# Altium integrated library Analog Devices Data Converters Analog-to-Digital Converters.IntLib: 2400 symbols (part 187 of 338)
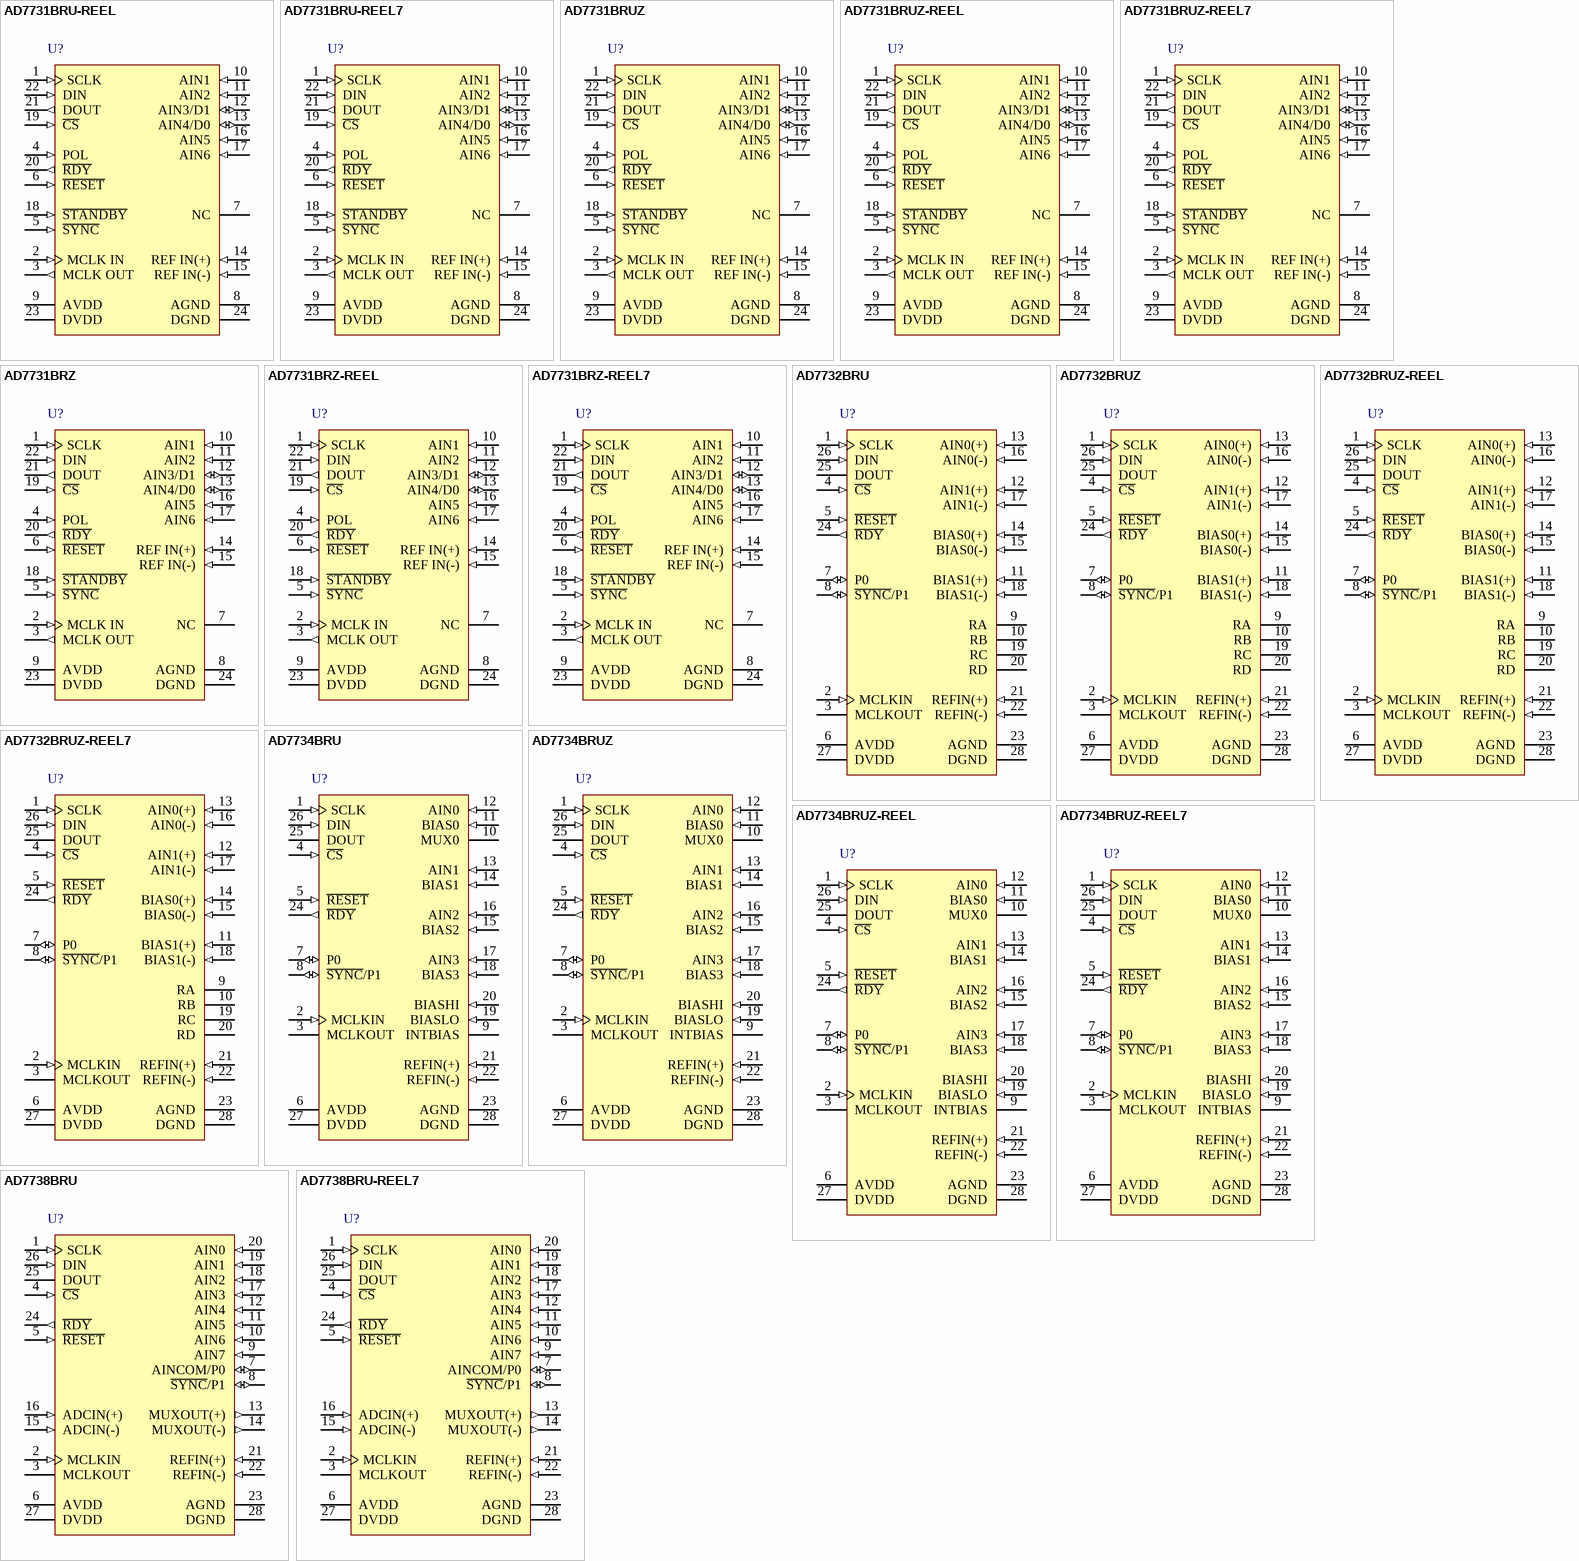
[diagram p259: symbols AD7731BRU-REEL to AD7738BRU-REEL7]

## AD7732BRUZ-REEL
designator U?
Dual 24-Bit Sigma-Delta Analog-to-Digital Converter with Serial, SPI Interface, +/-10 V, 15.4KSPS, -40 to +105 degC, RU-28, Pb-Free, Reel; Part Number: AD7732; Manufacturer: Analog Devices; Resolution (Bits): 24; Channels: 2; Throughput Rate (SPS): 15.4K; Interface: Ser, SPI; DatasheetVersion: Rev.A; PackageVersion: 2005; PackageReference: RU-28; PackageDescription: 28-Lead Thin Shrink Small Outline Package [TSSOP]; RoHS: Y; Packing: Reel; Mounting Technology: Surface Mount; Code_JEDEC: MO-153-AE; ComponentLink1Description: Manufacturer URL; ComponentLink1URL: http://www.analog.com/en/index.html; ComponentLink2Description: Datasheet; ComponentLink2URL: http://www.analog.com/static/imported-files/data_sheets/AD7732.pdf; ComponentLink3Description: Package Specification; ComponentLink3URL: http://www.analog.com/static/imported-files/packages/249854663RU_28.pdf; ComponentLink4Description: Product URL; ComponentLink4URL: http://www.analog.com/en/analog-to-digital-converters/ad-converters/ad7732/products/product.html
footprint RU-28_N (TSOP, 28-Leads, Body 9.7x4.4mm, Pitch 0.65mm, IPC Medium Density)
footprint RU-28_L (TSOP, 28-Leads, Body 9.7x4.4mm, Pitch 0.65mm, IPC High Density)
footprint RU-28_M (TSOP, 28-Leads, Body 9.7x4.4mm, Pitch 0.65mm, IPC Low Density)
pins: 1 SCLK (in) "Serial Clock. Schmitt triggered logic input. An external serial clock is applied to this input to transfer serial data to or from the AD7732.", 2 MCLKIN (in) "Master Clock Signal for the ADC. This can be provided in the form of a crystal/resonator or external clock. A crystal/resonator can be tied across the MCLKIN and MCLKOUT pins. Alternatively, the MCLKIN pin can be driven with (See Datasheet)", 3 MCLKOUT (hiz) "When the master clock for the device is a crystal/resonator, the crystal/resonator is connected between MCLKIN and MCLKOUT. If an external clock is applied to the MCLKIN, MCLKOUT provides an inverted clock signal or can be (See Datasheet)", 4 ~{CS} (in) "Chip Select. Active low Schmitt triggered logic input with an internal pull-up resistor. With this input hardwired low, the AD7732 can operate in its 3-wire interface mode using SCLK, DIN, and DOUT. C\S\ can be used to (See Datasheet)", 5 ~{RESET} (in) "Schmitt Triggered Logic Input. Active low input that resets the control logic, interface logic, digital filter, analog modulator, and all on-chip registers of the part to power-on status. Effectively, everything on the part (See Datasheet)", 6 AVDD (power) "Analog Positive Supply Voltage. 5 V to AGND nominal.", 7 P0 (io) "Digital Input/Output. The pin direction is determined by the P0 DIR bit; the digital value can be read/written as the P0 bit in the I/O port register. The digital voltage is referenced to analog supplies. When configured as (See Datasheet)", 8 ~{SYNC}/P1 (io) "S\Y\N\C\/Digital Input/Digital Output. The pin direction is determined by the P1 DIR bit; the digital value can be read/written as the P1 bit in the I/O port register. When the SYNC bit in the I/O port register is set to 1, (See Datasheet)", 9 RA "RA, in association with RB and BIAS0(+), can be used to level shift the positive analog input 0. In normal circuit configuration, this pin is left open circuit.", 10 RB "RB, in association with RA and BIAS0(+), can be used to level shift the positive analog input 0. In normal circuit configuration, this pin is left open circuit.", 11 BIAS1(+) (in) "This input is used to level shift the positive analog input 1. This signal is used to ensure that the differential signal seen by the internal buffer amplifier is within its common-mode range. BIAS pins will normally be (See Datasheet)", 12 AIN1(+) (in) "Positive Analog Input Channel 1.", 13 AIN0(+) (in) "Positive Analog Input Channel 0.", 14 BIAS0(+) (in) "Voltage Bias for Positive Analog Input 0. This pin has the same function as BIAS1(+).", 15 BIAS0(-) (in) "Voltage Bias for Negative Analog Input 0. This pin has the same function as BIAS1(+).", 16 AIN0(-) (in) "Negative Analog Input Channel 0.", 17 AIN1(-) (in) "Negative Analog Input Channel 1.", 18 BIAS1(-) (in) "Voltage Bias for Negative Analog Input 1. This pin has the same function as BIAS1(+).", 19 RC "RC, in association with RD and BIAS0(-), can be used to level shift the negative analog input 0. In normal circuit configuration, this pin is left open circuit.", 20 RD "RD, in association with RC and BIAS0(-), can be used to level shift the negative analog input 0. In normal circuit configuration, this pin is left open circuit.", 21 REFIN(+) (in) "Positive Terminal of the Differential Reference Input. REFIN(+) voltage potential can lie anywhere between AVDD and AGND. In normal circuit configuration, this pin should be connected to a 2.5 V reference voltage.", 22 REFIN(-) (in) "Negative Terminal of the Differential Reference Input. REFIN(-) voltage potential can lie anywhere between AVDD and AGND. In normal circuit configuration, this pin should be connected to a 0 V reference voltage.", 23 AGND (power) "Ground Reference Point for Analog Circuitry.", 24 ~{RDY} (out) "Logic Output. Used as a status output in both conversion mode and calibration mode. In conversion mode, a falling edge on this output indicates that either any channel or all channels have unread data available, according to (See Datasheet)", 25 DOUT (hiz) "Serial data output with serial data being read from the output shift register on the part. This output shift register can contain information from any AD7732 register, depending on the address bits of the communications (See Datasheet)", 26 DIN (in) "Serial data input (Schmitt triggered) with serial data being written to the input shift register on the part. Data from this input shift register is transferred to any AD7732 register, depending on the address bits of the (See Datasheet)", 27 DVDD (power) "Digital Supply Voltage, 3 V or 5 V Nominal.", 28 DGND (power) "Ground Reference Point for Digital Circuitry."

## AD7732BRUZ-REEL7
designator U?
Dual 24-Bit Sigma-Delta Analog-to-Digital Converter with Serial, SPI Interface, +/-10 V, 15.4KSPS, -40 to +105 degC, RU-28, Pb-Free, Reel; Part Number: AD7732; Manufacturer: Analog Devices; Resolution (Bits): 24; Channels: 2; Throughput Rate (SPS): 15.4K; Interface: Ser, SPI; DatasheetVersion: Rev.A; PackageVersion: 2005; PackageReference: RU-28; PackageDescription: 28-Lead Thin Shrink Small Outline Package [TSSOP]; RoHS: Y; Packing: Reel; Mounting Technology: Surface Mount; Code_JEDEC: MO-153-AE; ComponentLink1Description: Manufacturer URL; ComponentLink1URL: http://www.analog.com/en/index.html; ComponentLink2Description: Datasheet; ComponentLink2URL: http://www.analog.com/static/imported-files/data_sheets/AD7732.pdf; ComponentLink3Description: Package Specification; ComponentLink3URL: http://www.analog.com/static/imported-files/packages/249854663RU_28.pdf; ComponentLink4Description: Product URL; ComponentLink4URL: http://www.analog.com/en/analog-to-digital-converters/ad-converters/ad7732/products/product.html
footprint RU-28_N (TSOP, 28-Leads, Body 9.7x4.4mm, Pitch 0.65mm, IPC Medium Density)
footprint RU-28_L (TSOP, 28-Leads, Body 9.7x4.4mm, Pitch 0.65mm, IPC High Density)
footprint RU-28_M (TSOP, 28-Leads, Body 9.7x4.4mm, Pitch 0.65mm, IPC Low Density)
pins: 1 SCLK (in) "Serial Clock. Schmitt triggered logic input. An external serial clock is applied to this input to transfer serial data to or from the AD7732.", 2 MCLKIN (in) "Master Clock Signal for the ADC. This can be provided in the form of a crystal/resonator or external clock. A crystal/resonator can be tied across the MCLKIN and MCLKOUT pins. Alternatively, the MCLKIN pin can be driven with (See Datasheet)", 3 MCLKOUT (hiz) "When the master clock for the device is a crystal/resonator, the crystal/resonator is connected between MCLKIN and MCLKOUT. If an external clock is applied to the MCLKIN, MCLKOUT provides an inverted clock signal or can be (See Datasheet)", 4 ~{CS} (in) "Chip Select. Active low Schmitt triggered logic input with an internal pull-up resistor. With this input hardwired low, the AD7732 can operate in its 3-wire interface mode using SCLK, DIN, and DOUT. C\S\ can be used to (See Datasheet)", 5 ~{RESET} (in) "Schmitt Triggered Logic Input. Active low input that resets the control logic, interface logic, digital filter, analog modulator, and all on-chip registers of the part to power-on status. Effectively, everything on the part (See Datasheet)", 6 AVDD (power) "Analog Positive Supply Voltage. 5 V to AGND nominal.", 7 P0 (io) "Digital Input/Output. The pin direction is determined by the P0 DIR bit; the digital value can be read/written as the P0 bit in the I/O port register. The digital voltage is referenced to analog supplies. When configured as (See Datasheet)", 8 ~{SYNC}/P1 (io) "S\Y\N\C\/Digital Input/Digital Output. The pin direction is determined by the P1 DIR bit; the digital value can be read/written as the P1 bit in the I/O port register. When the SYNC bit in the I/O port register is set to 1, (See Datasheet)", 9 RA "RA, in association with RB and BIAS0(+), can be used to level shift the positive analog input 0. In normal circuit configuration, this pin is left open circuit.", 10 RB "RB, in association with RA and BIAS0(+), can be used to level shift the positive analog input 0. In normal circuit configuration, this pin is left open circuit.", 11 BIAS1(+) (in) "This input is used to level shift the positive analog input 1. This signal is used to ensure that the differential signal seen by the internal buffer amplifier is within its common-mode range. BIAS pins will normally be (See Datasheet)", 12 AIN1(+) (in) "Positive Analog Input Channel 1.", 13 AIN0(+) (in) "Positive Analog Input Channel 0.", 14 BIAS0(+) (in) "Voltage Bias for Positive Analog Input 0. This pin has the same function as BIAS1(+).", 15 BIAS0(-) (in) "Voltage Bias for Negative Analog Input 0. This pin has the same function as BIAS1(+).", 16 AIN0(-) (in) "Negative Analog Input Channel 0.", 17 AIN1(-) (in) "Negative Analog Input Channel 1.", 18 BIAS1(-) (in) "Voltage Bias for Negative Analog Input 1. This pin has the same function as BIAS1(+).", 19 RC "RC, in association with RD and BIAS0(-), can be used to level shift the negative analog input 0. In normal circuit configuration, this pin is left open circuit.", 20 RD "RD, in association with RC and BIAS0(-), can be used to level shift the negative analog input 0. In normal circuit configuration, this pin is left open circuit.", 21 REFIN(+) (in) "Positive Terminal of the Differential Reference Input. REFIN(+) voltage potential can lie anywhere between AVDD and AGND. In normal circuit configuration, this pin should be connected to a 2.5 V reference voltage.", 22 REFIN(-) (in) "Negative Terminal of the Differential Reference Input. REFIN(-) voltage potential can lie anywhere between AVDD and AGND. In normal circuit configuration, this pin should be connected to a 0 V reference voltage.", 23 AGND (power) "Ground Reference Point for Analog Circuitry.", 24 ~{RDY} (out) "Logic Output. Used as a status output in both conversion mode and calibration mode. In conversion mode, a falling edge on this output indicates that either any channel or all channels have unread data available, according to (See Datasheet)", 25 DOUT (hiz) "Serial data output with serial data being read from the output shift register on the part. This output shift register can contain information from any AD7732 register, depending on the address bits of the communications (See Datasheet)", 26 DIN (in) "Serial data input (Schmitt triggered) with serial data being written to the input shift register on the part. Data from this input shift register is transferred to any AD7732 register, depending on the address bits of the (See Datasheet)", 27 DVDD (power) "Digital Supply Voltage, 3 V or 5 V Nominal.", 28 DGND (power) "Ground Reference Point for Digital Circuitry."

## AD7734BRU
designator U?
Quad 24-Bit Sigma-Delta Analog-to-Digital Converter with Serial, SPI Interface, +/-10 V, 15.4KSPS, -40 to +105 degC, RU-28, Tube; Part Number: AD7734; Manufacturer: Analog Devices; Resolution (Bits): 24; Channels: 4; Throughput Rate (SPS): 15.4K; Interface: Ser, SPI; DatasheetVersion: Rev.0; PackageVersion: 2005; PackageReference: RU-28; PackageDescription: 28-Lead Thin Shrink Small Outline Package [TSSOP]; RoHS: N; Packing: Tube; Mounting Technology: Surface Mount; Code_JEDEC: MO-153-AE; ComponentLink1Description: Manufacturer URL; ComponentLink1URL: http://www.analog.com/en/index.html; ComponentLink2Description: Datasheet; ComponentLink2URL: http://www.analog.com/static/imported-files/data_sheets/AD7734.pdf; ComponentLink3Description: Package Specification; ComponentLink3URL: http://www.analog.com/static/imported-files/packages/249854663RU_28.pdf; ComponentLink4Description: Product URL; ComponentLink4URL: http://www.analog.com/en/analog-to-digital-converters/ad-converters/ad7734/products/product.html
footprint RU-28_N (TSOP, 28-Leads, Body 9.7x4.4mm, Pitch 0.65mm, IPC Medium Density)
footprint RU-28_L (TSOP, 28-Leads, Body 9.7x4.4mm, Pitch 0.65mm, IPC High Density)
footprint RU-28_M (TSOP, 28-Leads, Body 9.7x4.4mm, Pitch 0.65mm, IPC Low Density)
pins: 1 SCLK (in) "Serial Clock. Schmitt triggered logic input. An external serial clock is applied to this input to transfer serial data to or from the AD7734.", 2 MCLKIN (in) "Master Clock Signal for the ADC. This can be provided in the form of a crystal/resonator or external clock. A crystal/resonator can be tied across the MCLKIN and MCLKOUT pins. Alternatively, the MCLKIN pin can be driven with (See Datasheet)", 3 MCLKOUT (hiz) "When the master clock for the device is a crystal/resonator, the crystal/resonator is connected between MCLKIN and MCLKOUT. If an external clock is applied to the MCLKIN, MCLKOUT provides an inverted clock signal or can be (See Datasheet)", 4 ~{CS} (in) "Chip Select. Active low Schmitt triggered logic input with an internal pull-up resistor. With this input hardwired low, the AD7734 can operate in its 3-wire interface mode using SCLK, DIN, and DOUT. C\S\ can be used to (See Datasheet)", 5 ~{RESET} (in) "Schmitt Triggered Logic Input. Active low input that resets the control logic, interface logic, digital filter, analog modulator, and all on-chip registers of the part to power-on status. Effectively, everything on the part (See Datasheet)", 6 AVDD (power) "Analog Positive Supply Voltage. 5 V to AGND nominal.", 7 P0 (io) "Digital Input/Output. The pin direction is determined by the P0 DIR bit; the digital value can be read/written as the P0 bit in the I/O port register. The digital voltage is referenced to analog supplies. When configured as (See Datasheet)", 8 ~{SYNC}/P1 (io) "S\Y\N\C\/Digital Input/Digital Output. The pin direction is determined by the P1 DIR bit; the digital value can be read/written as the P1 bit in the I/O port register. When the SYNC bit in the I/O port register is set to 1, (See Datasheet)", 9 INTBIAS "This pin provides direct access to the analog input’s common node, bypassing the input resistor divider. In normal circuit configuration, this pin is left open circuit.", 10 MUX0 "This pin provides direct access to the multiplexer input of Channel 0, bypassing the input resistor divider. The input voltage range is 0 V to +0.625 V, +/-0.625 V, 0 V to +1.25 V, or +/-1.25 V referenced to the INTBIAS pin. (See Datasheet)", 11 BIAS0 (in) "These inputs are used to level shift the analog inputs. These signals are used to ensure that the differential signal seen by the internal buffer amplifier is within its common-mode range. The BIAS0 to BIAS3 pins will (See Datasheet)", 12 AIN0 (in) "Analog Inputs.", 13 AIN1 (in) "Analog Inputs.", 14 BIAS1 (in) "These inputs are used to level shift the analog inputs. These signals are used to ensure that the differential signal seen by the internal buffer amplifier is within its common-mode range. The BIAS0 to BIAS3 pins will (See Datasheet)", 15 BIAS2 (in) "These inputs are used to level shift the analog inputs. These signals are used to ensure that the differential signal seen by the internal buffer amplifier is within its common-mode range. The BIAS0 to BIAS3 pins will (See Datasheet)", 16 AIN2 (in) "Analog Inputs.", 17 AIN3 (in) "Analog Inputs.", 18 BIAS3 (in) "These inputs are used to level shift the analog inputs. These signals are used to ensure that the differential signal seen by the internal buffer amplifier is within its common-mode range. The BIAS0 to BIAS3 pins will (See Datasheet)", 19 BIASLO (in) "BIASLO, in association with BIASHI, is used to set the analog input common-mode voltage. Assuming the BIAS0 to BIAS3 and BIASHI pins are connected to 2.5 V, the analog input voltages are referenced to the voltage at BIASLO. (See Datasheet)", 20 BIASHI (in) "BIASHI, in association with BIASLO, is used to set the analog input common-mode voltage. In normal circuit configuration, this pin should be connected to 2.5 V.", 21 REFIN(+) (in) "Positive Terminal of the Differential Reference Input. REFIN(+) voltage potential can lie anywhere between AVDD and AGND. In normal circuit configuration, this pin should be connected to a 2.5 V reference voltage.", 22 REFIN(-) (in) "Negative Terminal of the Differential Reference Input. REFIN(-) voltage potential can lie anywhere between AVDD and AGND. In normal circuit configuration, this pin should be connected to a 0 V reference voltage.", 23 AGND (power) "Ground Reference Point for Analog Circuitry.", 24 ~{RDY} (out) "Logic Output. Used as a status output in both conversion mode and calibration mode. In conversion mode, a falling edge on this output indicates that either any channel or all channels have unread data available, according to (See Datasheet)", 25 DOUT (hiz) "Serial data output with serial data being read from the output shift register on the part. This output shift register can contain information from any AD7734 register, depending on the address bits of the communications (See Datasheet)", 26 DIN (in) "Serial data input (Schmitt triggered) with serial data being written to the input shift register on the part. Data from this input shift register is transferred to any AD7734 register, depending on the address bits of the (See Datasheet)", 27 DVDD (power) "Digital Supply Voltage, 3 V or 5 V Nominal.", 28 DGND (power) "Ground Reference Point for Digital Circuitry."

## AD7734BRUZ
designator U?
Quad 24-Bit Sigma-Delta Analog-to-Digital Converter with Serial, SPI Interface, +/-10 V, 15.4KSPS, -40 to +105 degC, RU-28, Pb-Free, Tube; Part Number: AD7734; Manufacturer: Analog Devices; Resolution (Bits): 24; Channels: 4; Throughput Rate (SPS): 15.4K; Interface: Ser, SPI; DatasheetVersion: Rev.0; PackageVersion: 2005; PackageReference: RU-28; PackageDescription: 28-Lead Thin Shrink Small Outline Package [TSSOP]; RoHS: Y; Packing: Tube; Mounting Technology: Surface Mount; Code_JEDEC: MO-153-AE; ComponentLink1Description: Manufacturer URL; ComponentLink1URL: http://www.analog.com/en/index.html; ComponentLink2Description: Datasheet; ComponentLink2URL: http://www.analog.com/static/imported-files/data_sheets/AD7734.pdf; ComponentLink3Description: Package Specification; ComponentLink3URL: http://www.analog.com/static/imported-files/packages/249854663RU_28.pdf; ComponentLink4Description: Product URL; ComponentLink4URL: http://www.analog.com/en/analog-to-digital-converters/ad-converters/ad7734/products/product.html
footprint RU-28_N (TSOP, 28-Leads, Body 9.7x4.4mm, Pitch 0.65mm, IPC Medium Density)
footprint RU-28_L (TSOP, 28-Leads, Body 9.7x4.4mm, Pitch 0.65mm, IPC High Density)
footprint RU-28_M (TSOP, 28-Leads, Body 9.7x4.4mm, Pitch 0.65mm, IPC Low Density)
pins: 1 SCLK (in) "Serial Clock. Schmitt triggered logic input. An external serial clock is applied to this input to transfer serial data to or from the AD7734.", 2 MCLKIN (in) "Master Clock Signal for the ADC. This can be provided in the form of a crystal/resonator or external clock. A crystal/resonator can be tied across the MCLKIN and MCLKOUT pins. Alternatively, the MCLKIN pin can be driven with (See Datasheet)", 3 MCLKOUT (hiz) "When the master clock for the device is a crystal/resonator, the crystal/resonator is connected between MCLKIN and MCLKOUT. If an external clock is applied to the MCLKIN, MCLKOUT provides an inverted clock signal or can be (See Datasheet)", 4 ~{CS} (in) "Chip Select. Active low Schmitt triggered logic input with an internal pull-up resistor. With this input hardwired low, the AD7734 can operate in its 3-wire interface mode using SCLK, DIN, and DOUT. C\S\ can be used to (See Datasheet)", 5 ~{RESET} (in) "Schmitt Triggered Logic Input. Active low input that resets the control logic, interface logic, digital filter, analog modulator, and all on-chip registers of the part to power-on status. Effectively, everything on the part (See Datasheet)", 6 AVDD (power) "Analog Positive Supply Voltage. 5 V to AGND nominal.", 7 P0 (io) "Digital Input/Output. The pin direction is determined by the P0 DIR bit; the digital value can be read/written as the P0 bit in the I/O port register. The digital voltage is referenced to analog supplies. When configured as (See Datasheet)", 8 ~{SYNC}/P1 (io) "S\Y\N\C\/Digital Input/Digital Output. The pin direction is determined by the P1 DIR bit; the digital value can be read/written as the P1 bit in the I/O port register. When the SYNC bit in the I/O port register is set to 1, (See Datasheet)", 9 INTBIAS "This pin provides direct access to the analog input’s common node, bypassing the input resistor divider. In normal circuit configuration, this pin is left open circuit.", 10 MUX0 "This pin provides direct access to the multiplexer input of Channel 0, bypassing the input resistor divider. The input voltage range is 0 V to +0.625 V, +/-0.625 V, 0 V to +1.25 V, or +/-1.25 V referenced to the INTBIAS pin. (See Datasheet)", 11 BIAS0 (in) "These inputs are used to level shift the analog inputs. These signals are used to ensure that the differential signal seen by the internal buffer amplifier is within its common-mode range. The BIAS0 to BIAS3 pins will (See Datasheet)", 12 AIN0 (in) "Analog Inputs.", 13 AIN1 (in) "Analog Inputs.", 14 BIAS1 (in) "These inputs are used to level shift the analog inputs. These signals are used to ensure that the differential signal seen by the internal buffer amplifier is within its common-mode range. The BIAS0 to BIAS3 pins will (See Datasheet)", 15 BIAS2 (in) "These inputs are used to level shift the analog inputs. These signals are used to ensure that the differential signal seen by the internal buffer amplifier is within its common-mode range. The BIAS0 to BIAS3 pins will (See Datasheet)", 16 AIN2 (in) "Analog Inputs.", 17 AIN3 (in) "Analog Inputs.", 18 BIAS3 (in) "These inputs are used to level shift the analog inputs. These signals are used to ensure that the differential signal seen by the internal buffer amplifier is within its common-mode range. The BIAS0 to BIAS3 pins will (See Datasheet)", 19 BIASLO (in) "BIASLO, in association with BIASHI, is used to set the analog input common-mode voltage. Assuming the BIAS0 to BIAS3 and BIASHI pins are connected to 2.5 V, the analog input voltages are referenced to the voltage at BIASLO. (See Datasheet)", 20 BIASHI (in) "BIASHI, in association with BIASLO, is used to set the analog input common-mode voltage. In normal circuit configuration, this pin should be connected to 2.5 V.", 21 REFIN(+) (in) "Positive Terminal of the Differential Reference Input. REFIN(+) voltage potential can lie anywhere between AVDD and AGND. In normal circuit configuration, this pin should be connected to a 2.5 V reference voltage.", 22 REFIN(-) (in) "Negative Terminal of the Differential Reference Input. REFIN(-) voltage potential can lie anywhere between AVDD and AGND. In normal circuit configuration, this pin should be connected to a 0 V reference voltage.", 23 AGND (power) "Ground Reference Point for Analog Circuitry.", 24 ~{RDY} (out) "Logic Output. Used as a status output in both conversion mode and calibration mode. In conversion mode, a falling edge on this output indicates that either any channel or all channels have unread data available, according to (See Datasheet)", 25 DOUT (hiz) "Serial data output with serial data being read from the output shift register on the part. This output shift register can contain information from any AD7734 register, depending on the address bits of the communications (See Datasheet)", 26 DIN (in) "Serial data input (Schmitt triggered) with serial data being written to the input shift register on the part. Data from this input shift register is transferred to any AD7734 register, depending on the address bits of the (See Datasheet)", 27 DVDD (power) "Digital Supply Voltage, 3 V or 5 V Nominal.", 28 DGND (power) "Ground Reference Point for Digital Circuitry."

## AD7734BRUZ-REEL
designator U?
Quad 24-Bit Sigma-Delta Analog-to-Digital Converter with Serial, SPI Interface, +/-10 V, 15.4KSPS, -40 to +105 degC, RU-28, Pb-Free, Reel; Part Number: AD7734; Manufacturer: Analog Devices; Resolution (Bits): 24; Channels: 4; Throughput Rate (SPS): 15.4K; Interface: Ser, SPI; DatasheetVersion: Rev.0; PackageVersion: 2005; PackageReference: RU-28; PackageDescription: 28-Lead Thin Shrink Small Outline Package [TSSOP]; RoHS: Y; Packing: Reel; Mounting Technology: Surface Mount; Code_JEDEC: MO-153-AE; ComponentLink1Description: Manufacturer URL; ComponentLink1URL: http://www.analog.com/en/index.html; ComponentLink2Description: Datasheet; ComponentLink2URL: http://www.analog.com/static/imported-files/data_sheets/AD7734.pdf; ComponentLink3Description: Package Specification; ComponentLink3URL: http://www.analog.com/static/imported-files/packages/249854663RU_28.pdf; ComponentLink4Description: Product URL; ComponentLink4URL: http://www.analog.com/en/analog-to-digital-converters/ad-converters/ad7734/products/product.html
footprint RU-28_N (TSOP, 28-Leads, Body 9.7x4.4mm, Pitch 0.65mm, IPC Medium Density)
footprint RU-28_L (TSOP, 28-Leads, Body 9.7x4.4mm, Pitch 0.65mm, IPC High Density)
footprint RU-28_M (TSOP, 28-Leads, Body 9.7x4.4mm, Pitch 0.65mm, IPC Low Density)
pins: 1 SCLK (in) "Serial Clock. Schmitt triggered logic input. An external serial clock is applied to this input to transfer serial data to or from the AD7734.", 2 MCLKIN (in) "Master Clock Signal for the ADC. This can be provided in the form of a crystal/resonator or external clock. A crystal/resonator can be tied across the MCLKIN and MCLKOUT pins. Alternatively, the MCLKIN pin can be driven with (See Datasheet)", 3 MCLKOUT (hiz) "When the master clock for the device is a crystal/resonator, the crystal/resonator is connected between MCLKIN and MCLKOUT. If an external clock is applied to the MCLKIN, MCLKOUT provides an inverted clock signal or can be (See Datasheet)", 4 ~{CS} (in) "Chip Select. Active low Schmitt triggered logic input with an internal pull-up resistor. With this input hardwired low, the AD7734 can operate in its 3-wire interface mode using SCLK, DIN, and DOUT. C\S\ can be used to (See Datasheet)", 5 ~{RESET} (in) "Schmitt Triggered Logic Input. Active low input that resets the control logic, interface logic, digital filter, analog modulator, and all on-chip registers of the part to power-on status. Effectively, everything on the part (See Datasheet)", 6 AVDD (power) "Analog Positive Supply Voltage. 5 V to AGND nominal.", 7 P0 (io) "Digital Input/Output. The pin direction is determined by the P0 DIR bit; the digital value can be read/written as the P0 bit in the I/O port register. The digital voltage is referenced to analog supplies. When configured as (See Datasheet)", 8 ~{SYNC}/P1 (io) "S\Y\N\C\/Digital Input/Digital Output. The pin direction is determined by the P1 DIR bit; the digital value can be read/written as the P1 bit in the I/O port register. When the SYNC bit in the I/O port register is set to 1, (See Datasheet)", 9 INTBIAS "This pin provides direct access to the analog input’s common node, bypassing the input resistor divider. In normal circuit configuration, this pin is left open circuit.", 10 MUX0 "This pin provides direct access to the multiplexer input of Channel 0, bypassing the input resistor divider. The input voltage range is 0 V to +0.625 V, +/-0.625 V, 0 V to +1.25 V, or +/-1.25 V referenced to the INTBIAS pin. (See Datasheet)", 11 BIAS0 (in) "These inputs are used to level shift the analog inputs. These signals are used to ensure that the differential signal seen by the internal buffer amplifier is within its common-mode range. The BIAS0 to BIAS3 pins will (See Datasheet)", 12 AIN0 (in) "Analog Inputs.", 13 AIN1 (in) "Analog Inputs.", 14 BIAS1 (in) "These inputs are used to level shift the analog inputs. These signals are used to ensure that the differential signal seen by the internal buffer amplifier is within its common-mode range. The BIAS0 to BIAS3 pins will (See Datasheet)", 15 BIAS2 (in) "These inputs are used to level shift the analog inputs. These signals are used to ensure that the differential signal seen by the internal buffer amplifier is within its common-mode range. The BIAS0 to BIAS3 pins will (See Datasheet)", 16 AIN2 (in) "Analog Inputs.", 17 AIN3 (in) "Analog Inputs.", 18 BIAS3 (in) "These inputs are used to level shift the analog inputs. These signals are used to ensure that the differential signal seen by the internal buffer amplifier is within its common-mode range. The BIAS0 to BIAS3 pins will (See Datasheet)", 19 BIASLO (in) "BIASLO, in association with BIASHI, is used to set the analog input common-mode voltage. Assuming the BIAS0 to BIAS3 and BIASHI pins are connected to 2.5 V, the analog input voltages are referenced to the voltage at BIASLO. (See Datasheet)", 20 BIASHI (in) "BIASHI, in association with BIASLO, is used to set the analog input common-mode voltage. In normal circuit configuration, this pin should be connected to 2.5 V.", 21 REFIN(+) (in) "Positive Terminal of the Differential Reference Input. REFIN(+) voltage potential can lie anywhere between AVDD and AGND. In normal circuit configuration, this pin should be connected to a 2.5 V reference voltage.", 22 REFIN(-) (in) "Negative Terminal of the Differential Reference Input. REFIN(-) voltage potential can lie anywhere between AVDD and AGND. In normal circuit configuration, this pin should be connected to a 0 V reference voltage.", 23 AGND (power) "Ground Reference Point for Analog Circuitry.", 24 ~{RDY} (out) "Logic Output. Used as a status output in both conversion mode and calibration mode. In conversion mode, a falling edge on this output indicates that either any channel or all channels have unread data available, according to (See Datasheet)", 25 DOUT (hiz) "Serial data output with serial data being read from the output shift register on the part. This output shift register can contain information from any AD7734 register, depending on the address bits of the communications (See Datasheet)", 26 DIN (in) "Serial data input (Schmitt triggered) with serial data being written to the input shift register on the part. Data from this input shift register is transferred to any AD7734 register, depending on the address bits of the (See Datasheet)", 27 DVDD (power) "Digital Supply Voltage, 3 V or 5 V Nominal.", 28 DGND (power) "Ground Reference Point for Digital Circuitry."

## AD7734BRUZ-REEL7
designator U?
Quad 24-Bit Sigma-Delta Analog-to-Digital Converter with Serial, SPI Interface, +/-10 V, 15.4KSPS, -40 to +105 degC, RU-28, Pb-Free, Reel; Part Number: AD7734; Manufacturer: Analog Devices; Resolution (Bits): 24; Channels: 4; Throughput Rate (SPS): 15.4K; Interface: Ser, SPI; DatasheetVersion: Rev.0; PackageVersion: 2005; PackageReference: RU-28; PackageDescription: 28-Lead Thin Shrink Small Outline Package [TSSOP]; RoHS: Y; Packing: Reel; Mounting Technology: Surface Mount; Code_JEDEC: MO-153-AE; ComponentLink1Description: Manufacturer URL; ComponentLink1URL: http://www.analog.com/en/index.html; ComponentLink2Description: Datasheet; ComponentLink2URL: http://www.analog.com/static/imported-files/data_sheets/AD7734.pdf; ComponentLink3Description: Package Specification; ComponentLink3URL: http://www.analog.com/static/imported-files/packages/249854663RU_28.pdf; ComponentLink4Description: Product URL; ComponentLink4URL: http://www.analog.com/en/analog-to-digital-converters/ad-converters/ad7734/products/product.html
footprint RU-28_N (TSOP, 28-Leads, Body 9.7x4.4mm, Pitch 0.65mm, IPC Medium Density)
footprint RU-28_L (TSOP, 28-Leads, Body 9.7x4.4mm, Pitch 0.65mm, IPC High Density)
footprint RU-28_M (TSOP, 28-Leads, Body 9.7x4.4mm, Pitch 0.65mm, IPC Low Density)
pins: 1 SCLK (in) "Serial Clock. Schmitt triggered logic input. An external serial clock is applied to this input to transfer serial data to or from the AD7734.", 2 MCLKIN (in) "Master Clock Signal for the ADC. This can be provided in the form of a crystal/resonator or external clock. A crystal/resonator can be tied across the MCLKIN and MCLKOUT pins. Alternatively, the MCLKIN pin can be driven with (See Datasheet)", 3 MCLKOUT (hiz) "When the master clock for the device is a crystal/resonator, the crystal/resonator is connected between MCLKIN and MCLKOUT. If an external clock is applied to the MCLKIN, MCLKOUT provides an inverted clock signal or can be (See Datasheet)", 4 ~{CS} (in) "Chip Select. Active low Schmitt triggered logic input with an internal pull-up resistor. With this input hardwired low, the AD7734 can operate in its 3-wire interface mode using SCLK, DIN, and DOUT. C\S\ can be used to (See Datasheet)", 5 ~{RESET} (in) "Schmitt Triggered Logic Input. Active low input that resets the control logic, interface logic, digital filter, analog modulator, and all on-chip registers of the part to power-on status. Effectively, everything on the part (See Datasheet)", 6 AVDD (power) "Analog Positive Supply Voltage. 5 V to AGND nominal.", 7 P0 (io) "Digital Input/Output. The pin direction is determined by the P0 DIR bit; the digital value can be read/written as the P0 bit in the I/O port register. The digital voltage is referenced to analog supplies. When configured as (See Datasheet)", 8 ~{SYNC}/P1 (io) "S\Y\N\C\/Digital Input/Digital Output. The pin direction is determined by the P1 DIR bit; the digital value can be read/written as the P1 bit in the I/O port register. When the SYNC bit in the I/O port register is set to 1, (See Datasheet)", 9 INTBIAS "This pin provides direct access to the analog input’s common node, bypassing the input resistor divider. In normal circuit configuration, this pin is left open circuit.", 10 MUX0 "This pin provides direct access to the multiplexer input of Channel 0, bypassing the input resistor divider. The input voltage range is 0 V to +0.625 V, +/-0.625 V, 0 V to +1.25 V, or +/-1.25 V referenced to the INTBIAS pin. (See Datasheet)", 11 BIAS0 (in) "These inputs are used to level shift the analog inputs. These signals are used to ensure that the differential signal seen by the internal buffer amplifier is within its common-mode range. The BIAS0 to BIAS3 pins will (See Datasheet)", 12 AIN0 (in) "Analog Inputs.", 13 AIN1 (in) "Analog Inputs.", 14 BIAS1 (in) "These inputs are used to level shift the analog inputs. These signals are used to ensure that the differential signal seen by the internal buffer amplifier is within its common-mode range. The BIAS0 to BIAS3 pins will (See Datasheet)", 15 BIAS2 (in) "These inputs are used to level shift the analog inputs. These signals are used to ensure that the differential signal seen by the internal buffer amplifier is within its common-mode range. The BIAS0 to BIAS3 pins will (See Datasheet)", 16 AIN2 (in) "Analog Inputs.", 17 AIN3 (in) "Analog Inputs.", 18 BIAS3 (in) "These inputs are used to level shift the analog inputs. These signals are used to ensure that the differential signal seen by the internal buffer amplifier is within its common-mode range. The BIAS0 to BIAS3 pins will (See Datasheet)", 19 BIASLO (in) "BIASLO, in association with BIASHI, is used to set the analog input common-mode voltage. Assuming the BIAS0 to BIAS3 and BIASHI pins are connected to 2.5 V, the analog input voltages are referenced to the voltage at BIASLO. (See Datasheet)", 20 BIASHI (in) "BIASHI, in association with BIASLO, is used to set the analog input common-mode voltage. In normal circuit configuration, this pin should be connected to 2.5 V.", 21 REFIN(+) (in) "Positive Terminal of the Differential Reference Input. REFIN(+) voltage potential can lie anywhere between AVDD and AGND. In normal circuit configuration, this pin should be connected to a 2.5 V reference voltage.", 22 REFIN(-) (in) "Negative Terminal of the Differential Reference Input. REFIN(-) voltage potential can lie anywhere between AVDD and AGND. In normal circuit configuration, this pin should be connected to a 0 V reference voltage.", 23 AGND (power) "Ground Reference Point for Analog Circuitry.", 24 ~{RDY} (out) "Logic Output. Used as a status output in both conversion mode and calibration mode. In conversion mode, a falling edge on this output indicates that either any channel or all channels have unread data available, according to (See Datasheet)", 25 DOUT (hiz) "Serial data output with serial data being read from the output shift register on the part. This output shift register can contain information from any AD7734 register, depending on the address bits of the communications (See Datasheet)", 26 DIN (in) "Serial data input (Schmitt triggered) with serial data being written to the input shift register on the part. Data from this input shift register is transferred to any AD7734 register, depending on the address bits of the (See Datasheet)", 27 DVDD (power) "Digital Supply Voltage, 3 V or 5 V Nominal.", 28 DGND (power) "Ground Reference Point for Digital Circuitry."

## AD7738BRU
designator U?
Octal 24-Bit Sigma-Delta Analog-to-Digital Converter with Serial, SPI Interface, 15.4KSPS, -40 to +105 degC, RU-28, Tube; Part Number: AD7738; Manufacturer: Analog Devices; Resolution (Bits): 24; Channels: 8; Throughput Rate (SPS): 15.4K; Interface: Ser, SPI; DatasheetVersion: Rev.0; PackageVersion: 2005; PackageReference: RU-28; PackageDescription: 28-Lead Thin Shrink Small Outline Package [TSSOP]; RoHS: N; Packing: Tube; Mounting Technology: Surface Mount; Code_JEDEC: MO-153-AE; ComponentLink1Description: Manufacturer URL; ComponentLink1URL: http://www.analog.com/en/index.html; ComponentLink2Description: Datasheet; ComponentLink2URL: http://www.analog.com/static/imported-files/data_sheets/AD7738.pdf; ComponentLink3Description: Package Specification; ComponentLink3URL: http://www.analog.com/static/imported-files/packages/249854663RU_28.pdf; ComponentLink4Description: Product URL; ComponentLink4URL: http://www.analog.com/en/analog-to-digital-converters/ad-converters/ad7738/products/product.html
footprint RU-28_N (TSOP, 28-Leads, Body 9.7x4.4mm, Pitch 0.65mm, IPC Medium Density)
footprint RU-28_L (TSOP, 28-Leads, Body 9.7x4.4mm, Pitch 0.65mm, IPC High Density)
footprint RU-28_M (TSOP, 28-Leads, Body 9.7x4.4mm, Pitch 0.65mm, IPC Low Density)
pins: 1 SCLK (in) "Serial Clock. Schmitt-Triggered Logic Input. An external serial clock is applied to this input to transfer serial data to or from the AD7738.", 2 MCLKIN (in) "Master Clock Signal for the ADC. This can be provided in the form of a crystal/resonator or external clock. A crystal/resonator can be tied across the MCLKIN and MCLKOUT pins. Alternatively, the MCLKIN pin can be driven with (See Datasheet)", 3 MCLKOUT (hiz) "When the master clock for the device is a crystal/resonator, the crystal/resonator is connected between MCLKIN and MCLKOUT. If an external clock is applied to the MCLKIN, MCLKOUT provides an inverted clock signal or can be (See Datasheet)", 4 ~{CS} (in) "Chip Select. Active low Schmitt triggered logic input with an internal pull-up resistor. With this input hardwired low, the AD7738 can operate in its 3-wire interface mode using SCLK, DIN, and DOUT. C\S\ can be used to (See Datasheet)", 5 ~{RESET} (in) "Schmitt-Triggered Logic Input. Active low input that resets the control logic, interface logic, digital filter, analog modulator, and all on-chip registers of the part to power-on status. Effectively, everything on the part (See Datasheet)", 6 AVDD (power) "Analog Positive Supply Voltage. 5 V to AGND nominal.", 7 AINCOM/P0 (io) "Analog Inputs Common Terminal/Digital Output. The pin is determined by the P0 Dir bit; the digital value can be written as the P0 bit in the I/O Port register. The digital voltage is referenced to analog supplies. When (See Datasheet)", 8 ~{SYNC}/P1 (io) "S\Y\N\C\/Digital Input/Digital Output. The pin direction is determined by the P1 Dir bit; the digital value can be read/written as the P1 bit in the I/O Port register. When the SYNC Enable bit in the I/O Port register is set (See Datasheet)", 9 AIN7 (in) "Analog Inputs", 10 AIN6 (in) "Analog Inputs", 11 AIN5 (in) "Analog Inputs", 12 AIN4 (in) "Analog Inputs", 13 MUXOUT(+) (out) "Analog Multiplexer Positive Output", 14 MUXOUT(-) (out) "Analog Multiplexer Negative Output", 15 ADCIN(-) (in) "ADC Negative Input. In normal circuit configuration, this pin should be connected to the MUXOUT- pin.", 16 ADCIN(+) (in) "ADC Positive Input. In normal circuit configuration, this pin should be connected to the MUXOUT+ pin.", 17 AIN3 (in) "Analog Inputs", 18 AIN2 (in) "Analog Inputs", 19 AIN1 (in) "Analog Inputs", 20 AIN0 (in) "Analog Inputs", 21 REFIN(+) (in) "Positive Terminal of the Differential Reference Input. REFIN+ voltage potential can lie any where between AVDD and AGND. In normal circuit configuration, this pin should be connected to a 2.5 V reference voltage.", 22 REFIN(-) (in) "Negative Terminal of the Differential Reference Input. REFIN- voltage potential can lie any where between AVDD and AGND. In normal circuit configuration, this pin should be connected to a 0 V reference voltage.", 23 AGND (power) "Ground Reference Point for Analog Circuitry", 24 ~{RDY} (out) "Logic Output. Used as a status output in both conversion mode and calibration mode. In conversion mode, a falling edge on this output indicates that either any channel or all channels have unread data available--according to (See Datasheet)", 25 DOUT (hiz) "Serial Data Output with serial data being read from the output shift register on the part. This output shift register can contain information from any AD7738 register depending on the address bits of the Communications (See Datasheet)", 26 DIN (in) "Serial Data Input (Schmitt triggered) with serial data being written to the input shift register on the part. Data from this input shift register is transferred to any AD7738 register depending on the address bits of the (See Datasheet)", 27 DVDD (power) "Digital Supply Voltage, 3 V or 5 V Nominal", 28 DGND (power) "Ground Reference Point for Digital Circuitry"

## AD7738BRU-REEL7
designator U?
Octal 24-Bit Sigma-Delta Analog-to-Digital Converter with Serial, SPI Interface, 15.4KSPS, -40 to +105 degC, RU-28, Reel; Part Number: AD7738; Manufacturer: Analog Devices; Resolution (Bits): 24; Channels: 8; Throughput Rate (SPS): 15.4K; Interface: Ser, SPI; DatasheetVersion: Rev.0; PackageVersion: 2005; PackageReference: RU-28; PackageDescription: 28-Lead Thin Shrink Small Outline Package [TSSOP]; RoHS: N; Packing: Reel; Mounting Technology: Surface Mount; Code_JEDEC: MO-153-AE; ComponentLink1Description: Manufacturer URL; ComponentLink1URL: http://www.analog.com/en/index.html; ComponentLink2Description: Datasheet; ComponentLink2URL: http://www.analog.com/static/imported-files/data_sheets/AD7738.pdf; ComponentLink3Description: Package Specification; ComponentLink3URL: http://www.analog.com/static/imported-files/packages/249854663RU_28.pdf; ComponentLink4Description: Product URL; ComponentLink4URL: http://www.analog.com/en/analog-to-digital-converters/ad-converters/ad7738/products/product.html
footprint RU-28_N (TSOP, 28-Leads, Body 9.7x4.4mm, Pitch 0.65mm, IPC Medium Density)
footprint RU-28_L (TSOP, 28-Leads, Body 9.7x4.4mm, Pitch 0.65mm, IPC High Density)
footprint RU-28_M (TSOP, 28-Leads, Body 9.7x4.4mm, Pitch 0.65mm, IPC Low Density)
pins: 1 SCLK (in) "Serial Clock. Schmitt-Triggered Logic Input. An external serial clock is applied to this input to transfer serial data to or from the AD7738.", 2 MCLKIN (in) "Master Clock Signal for the ADC. This can be provided in the form of a crystal/resonator or external clock. A crystal/resonator can be tied across the MCLKIN and MCLKOUT pins. Alternatively, the MCLKIN pin can be driven with (See Datasheet)", 3 MCLKOUT (hiz) "When the master clock for the device is a crystal/resonator, the crystal/resonator is connected between MCLKIN and MCLKOUT. If an external clock is applied to the MCLKIN, MCLKOUT provides an inverted clock signal or can be (See Datasheet)", 4 ~{CS} (in) "Chip Select. Active low Schmitt triggered logic input with an internal pull-up resistor. With this input hardwired low, the AD7738 can operate in its 3-wire interface mode using SCLK, DIN, and DOUT. C\S\ can be used to (See Datasheet)", 5 ~{RESET} (in) "Schmitt-Triggered Logic Input. Active low input that resets the control logic, interface logic, digital filter, analog modulator, and all on-chip registers of the part to power-on status. Effectively, everything on the part (See Datasheet)", 6 AVDD (power) "Analog Positive Supply Voltage. 5 V to AGND nominal.", 7 AINCOM/P0 (io) "Analog Inputs Common Terminal/Digital Output. The pin is determined by the P0 Dir bit; the digital value can be written as the P0 bit in the I/O Port register. The digital voltage is referenced to analog supplies. When (See Datasheet)", 8 ~{SYNC}/P1 (io) "S\Y\N\C\/Digital Input/Digital Output. The pin direction is determined by the P1 Dir bit; the digital value can be read/written as the P1 bit in the I/O Port register. When the SYNC Enable bit in the I/O Port register is set (See Datasheet)", 9 AIN7 (in) "Analog Inputs", 10 AIN6 (in) "Analog Inputs", 11 AIN5 (in) "Analog Inputs", 12 AIN4 (in) "Analog Inputs", 13 MUXOUT(+) (out) "Analog Multiplexer Positive Output", 14 MUXOUT(-) (out) "Analog Multiplexer Negative Output", 15 ADCIN(-) (in) "ADC Negative Input. In normal circuit configuration, this pin should be connected to the MUXOUT- pin.", 16 ADCIN(+) (in) "ADC Positive Input. In normal circuit configuration, this pin should be connected to the MUXOUT+ pin.", 17 AIN3 (in) "Analog Inputs", 18 AIN2 (in) "Analog Inputs", 19 AIN1 (in) "Analog Inputs", 20 AIN0 (in) "Analog Inputs", 21 REFIN(+) (in) "Positive Terminal of the Differential Reference Input. REFIN+ voltage potential can lie any where between AVDD and AGND. In normal circuit configuration, this pin should be connected to a 2.5 V reference voltage.", 22 REFIN(-) (in) "Negative Terminal of the Differential Reference Input. REFIN- voltage potential can lie any where between AVDD and AGND. In normal circuit configuration, this pin should be connected to a 0 V reference voltage.", 23 AGND (power) "Ground Reference Point for Analog Circuitry", 24 ~{RDY} (out) "Logic Output. Used as a status output in both conversion mode and calibration mode. In conversion mode, a falling edge on this output indicates that either any channel or all channels have unread data available--according to (See Datasheet)", 25 DOUT (hiz) "Serial Data Output with serial data being read from the output shift register on the part. This output shift register can contain information from any AD7738 register depending on the address bits of the Communications (See Datasheet)", 26 DIN (in) "Serial Data Input (Schmitt triggered) with serial data being written to the input shift register on the part. Data from this input shift register is transferred to any AD7738 register depending on the address bits of the (See Datasheet)", 27 DVDD (power) "Digital Supply Voltage, 3 V or 5 V Nominal", 28 DGND (power) "Ground Reference Point for Digital Circuitry"

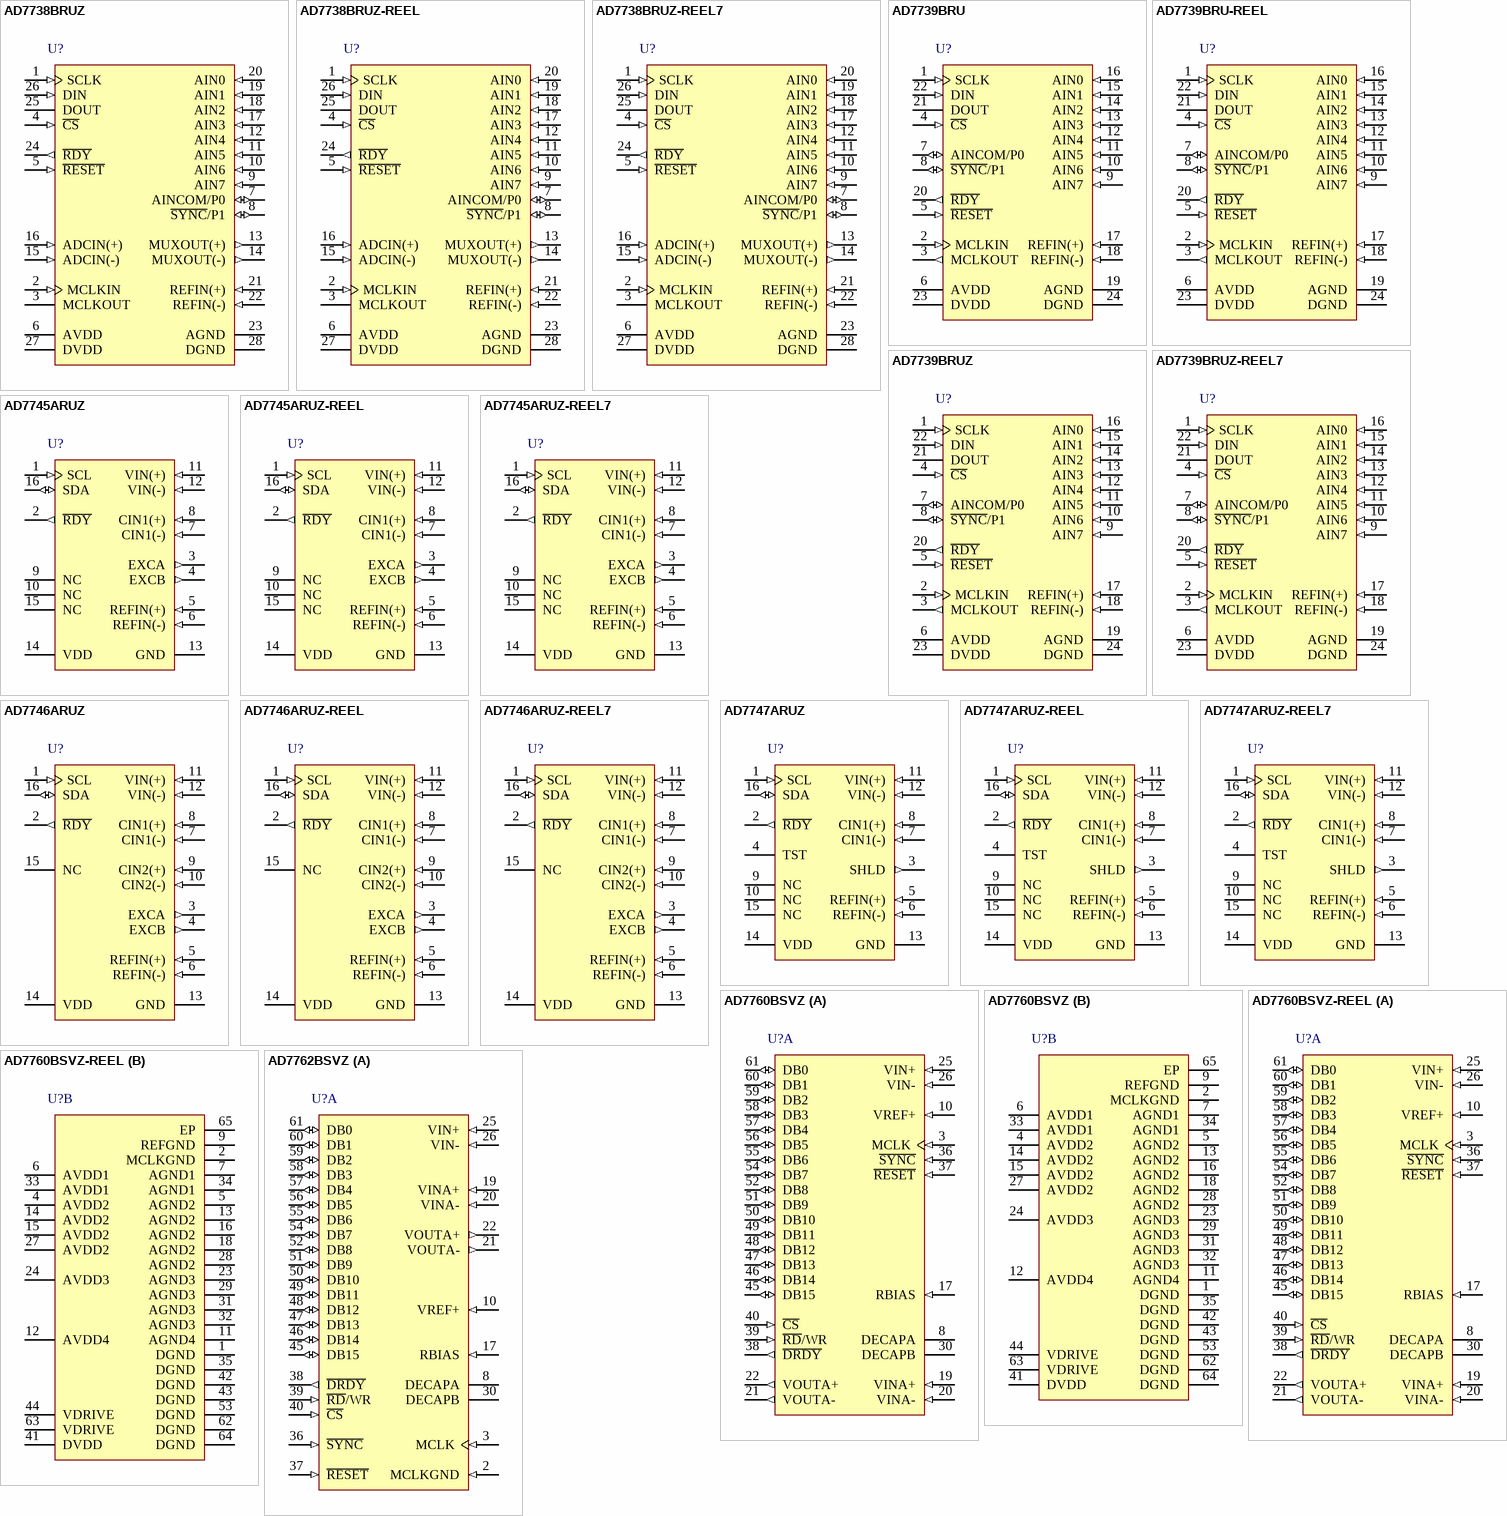
[diagram p59: symbols AD7738BRUZ to AD7762BSVZ]